# EAGLE library part ISL9216 (library ISL9216,9217)
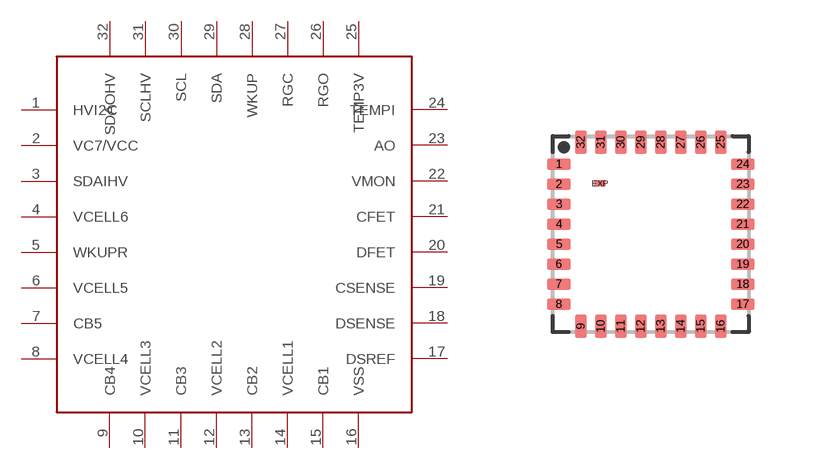
[diagram p0: symbol with the pads of ISL9216; footprint ISL9216]

Designator prefix -

## ISL9216  [ISL9216]
1  HVI2C
2  VC7/VCC
3  SDAIHV
4  VCELL6
5  WKUPR
6  VCELL5
7  CB5
8  VCELL4
9  CB4
10  VCELL3
11  CB3
12  VCELL2
13  CB2
14  VCELL1
15  CB1
16  VSS
17  DSREF
18  DSENSE
19  CSENSE
20  DFET
21  CFET
22  VMON
23  AO
24  TEMPI
25  TEMP3V
26  RGO
27  RGC
28  WKUP
29  SDA
30  SCL
31  SCLHV
32  SDAOHV

## Footprint ISL9216 (pad centres in mm)
smd 0.6 x 0.3: 1 -2.24,1.69; 2 -2.24,1.19; 3 -2.24,0.69; 4 -2.24,0.19; 5 -2.24,-0.31; 6 -2.24,-0.81; 7 -2.24,-1.31; 8 -2.24,-1.81; 17 2.36,-1.81; 18 2.36,-1.31; 19 2.36,-0.81; 20 2.36,-0.31; 21 2.36,0.19; 22 2.36,0.69; 23 2.36,1.19; 24 2.36,1.69
smd 0.3 x 0.6: 9 -1.69,-2.36; 10 -1.19,-2.36; 11 -0.69,-2.36; 12 -0.19,-2.36; 13 0.31,-2.36; 14 0.81,-2.36; 15 1.31,-2.36; 16 1.81,-2.36; 25 1.81,2.24; 26 1.31,2.24; 27 0.81,2.24; 28 0.31,2.24; 29 -0.19,2.24; 30 -0.69,2.24; 31 -1.19,2.24; 32 -1.69,2.24
smd 0.305 x 0.152: EXP -1.21,1.21